# Altium footprint library 5019400307.PcbLib: 1 footprints
Each footprint in its own frame and in the unit in brackets; x right, y up, seen from the top. Pads: shape width x height; smd on the part's side, far side on the other; paste and mask are expansions set on the pad; w line width, h text height; cw(c..) or ccw(c..) is an arc to the next point about the centre after c.
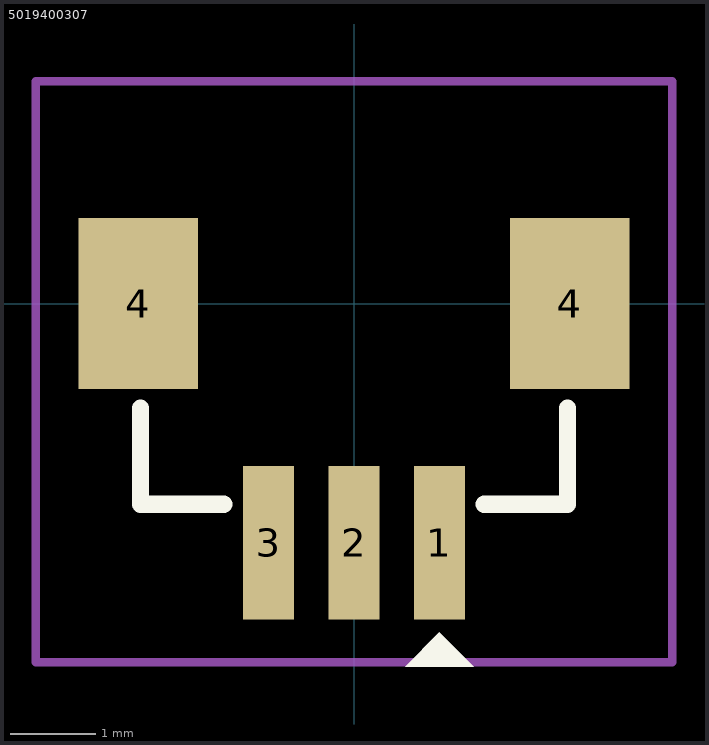
[diagram p0: the footprint, top view; thin cyan lines are the x and y axes]

## 5019400307 [mm]
pads (5):
  rect 0.6x1.8 smd: 1(1,-2.8) 2(0,-2.8) 3(-1,-2.8)
  rect 1.4x2 smd: 4(-2.525,0) 4(2.525,0)
Top Overlay:
  region: 1.4,-4.25 0.6,-4.25 1,-3.85
  lines w0.2: -2.5,-1.225 -2.5,-2.35 -1.525,-2.35 ; 1.525,-2.35 2.5,-2.35 2.5,-1.225
Top Courtyard:
  lines w0.1: -3.725,-1 -3.725,-4.2 ; -3.725,-4.2 3.725,-4.2 3.725,2.6 -3.725,2.6 -3.725,-4.2
3D body "5019400307.stp": height 5.45, standoff -0.05, extent -2.62,-2.95 2.62,2.1